# EAGLE library part MPL3115A2_MPL3115A2 (library Shield)
PRESSURE SENSOR, 20-110KPA, 8LGA
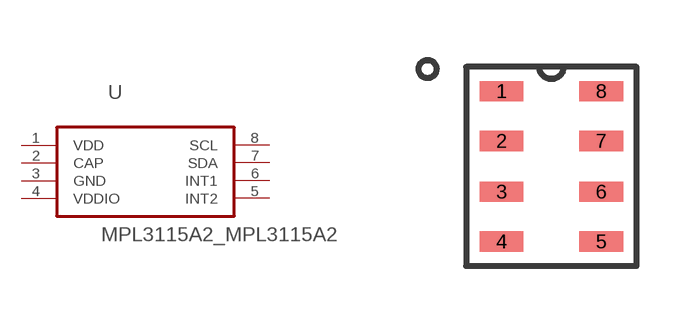
[diagram p4: symbol with the pads of MPL3115A2_DFN300X500X120-8N; footprint MPL3115A2_DFN300X500X120-8N]

Designator prefix U

## MPL3115A2_MPL3115A2 (MPN: MPL3115A2; OC_FARNELL: 2009084; OC_NEWARK: 48T4344; PACKAGE: 8LGA; SUPPLIER: FREESCALE SEMICONDUCTOR)  [MPL3115A2_DFN300X500X120-8N]
1  VDD  pwr
2  CAP  pas
3  GND  pwr
4  VDDIO  pwr
5  INT2  pas
6  INT1  pas
7  SDA
8  SCL  in

## Footprint MPL3115A2_DFN300X500X120-8N (pad centres in mm)
smd 1.092 x 0.508: 1 -1.245,1.88; 2 -1.245,0.635; 3 -1.245,-0.635; 4 -1.245,-1.88; 5 1.245,-1.88; 6 1.245,-0.635; 7 1.245,0.635; 8 1.245,1.88